# EAGLE library part S9B-PH (library con-JST PH)
JST PH series header 2.00mm pitch disconnectable crimp style connectors, horizontal (side entry type), 9 pins
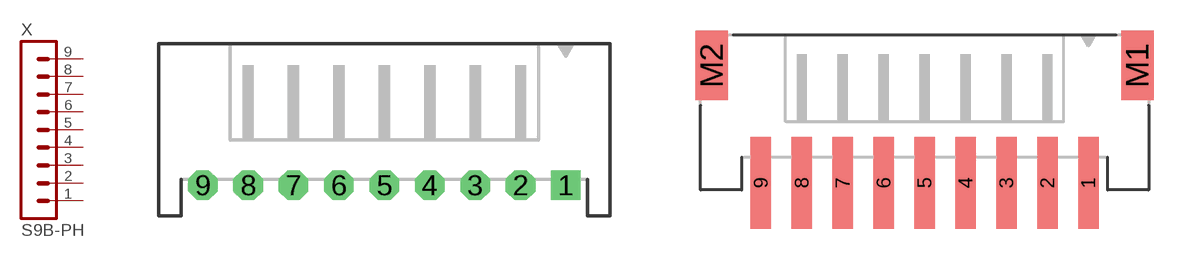
[diagram p14: symbol with the pads of S9B-PH-K-S; footprints S9B-PH-K-S, S9B-PH-SM4-TB]

Designator prefix X

## S9B-PH-K-S  [S9B-PH-K-S]
1  1  pas
2  2  pas
3  3  pas
4  4  pas
5  5  pas
6  6  pas
7  7  pas
8  8  pas
9  9  pas

## S9B-PH-KL  [S9B-PH-K-S]
Pads as for S9B-PH-K-S

## S9B-PH-SM4-TB  [S9B-PH-SM4-TB]
Pads as for S9B-PH-K-S

## Footprint S9B-PH-K-S (pad centres in mm)
JST PH series header 2.00mm pitch disconnectable crimp style connectors, through-hole horizontal (side entry type), 9 pins
drill 0.7 pad 1.3 square: 1 8,0
drill 0.7 pad 1.3 octagon: 2 6,0; 3 4,0; 4 2,0; 5 0,0; 6 -2,0; 7 -4,0; 8 -6,0; 9 -8,0

## Footprint S9B-PH-SM4-TB (pad centres in mm)
JST PH series header 2.00mm pitch disconnectable crimp style connectors, SMT horizontal (side entry type), 9 pins
smd 1 x 4.5: 1 8,0; 2 6,0; 3 4,0; 4 2,0; 5 0,0; 6 -2,0; 7 -4,0; 8 -6,0; 9 -8,0
smd 1.6 x 3.4: M1 10.4,5.75; M2 -10.4,5.75